# EAGLE library part ADG821 (library Neel)
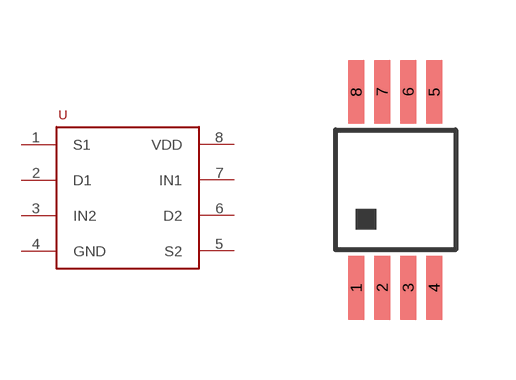
[diagram p0: symbol with the pads of MSOP-8; footprint MSOP-8]

Designator prefix -

## ADG821  [MSOP-8]
1  S1
2  D1
3  IN2
4  GND
5  S2
6  D2
7  IN1
8  VDD

## Footprint MSOP-8 (pad centres in mm)
smd 0.4 x 1.6: 1 0.52,-0.95; 2 1.17,-0.95; 3 1.82,-0.95; 4 2.47,-0.95; 5 2.47,3.95; 6 1.82,3.95; 7 1.17,3.95; 8 0.52,3.95